# EAGLE library part PIC32MX5*L? (library mchp_pic32)
100 pins, USB and CAN Microcontroller, from 64k to 512k and 32k/128k Ram Description PIC32MX564F064L (64k Flash, 32k Ram) PIC32MX564F128L (128k Flash, 32k Ram) PIC32MX575F256L (256k Flash, 64k Ram) PIC32MX575F512L (512k Flash, 64k Ram) PIC32MX595F512L (512k Flash, 128k Ram) MCU Core -80MHz, 1.56 DMIPS/MHz, 32-bit MIPS M4K® Core -USB 2.0 On-The-Go Peripheral with integrated PHY -10/100 Ethernet MAC with MII/RMII Interfaces -2 x CAN2.0b modules with 1024 buffers -8 Dedicated DMA Channels for USB OTG, Ethernet, and CAN -5 Stage pipeline, Harvard architecture -MIPS16e mode for up to 40% smaller code size -Single cycle multiply and hardware divide unit -32 x 32-bit Core Registers -32 x 32-bit Shadow Registers -Fast context switch and interrupt response MCU System Features -512K Flash (plus 12K boot Flash) -128K RAM (can execute from RAM) -8 Channel General Hardware DMA Controller -Flash prefetch module with 256 Byte cache -Lock instructions or data in cache for fast access -Programmable vector interrupt controller Analog Features -Fast and Accurate 16 channel 10-bit ADC, Max 1 Mega sample per second at +/- 1LSB, conversion available during SLEEP & IDLE -Power Management Modes -RUN, IDLE, and SLEEP modes -Multiple switchable clock modes for each power mode, enables optimum power settings Debug Features -iFlow Trace: Non-intrusive Hardware Instruction Trace port (5 Wires) -8 hardware breakpoints (6 Instruction and 2 Data) -2 wire programming and debugging interface -JTAG interface supporting Programming, Debugging and Boundary scan Other MCU Features -Fail-Safe Clock Monitor - allows safe shutdown if clock fails -2 Internal oscillators (8MHz & 31KHz) -Hardware RTCC (Real-Time Clock and Calendar with Alarms) -Watchdog Timer with separate RC oscillator -Pin compatible with 16-bit PIC® MCUs -Serial Communication Modules allow flexible UART/SPI/I2C™ configuration Device Program Data USB CAN Timers/ Capture/ Compare DMA Channels UART SPI I2C ADC channels Comparators PMP/PSP Jtag Trace PIC32MX564F064L 64 32 1 1 5/5/5 4/4 6 4 5 16 2 Yes Yes Yes PIC32MX564F128L 128 32 1 1 5/5/5 4/4 6 4 5 16 2 Yes Yes Yes PIC32MX575F256L 256 64 1 1 5/5/5 8/4 6 4 5 16 2 Yes Yes Yes PIC32MX575F512L 256 64 1 1 5/5/5 8/4 6 4 5 16 2 Yes Yes Yes PIC32MX595F512L 512 128 1 1 5/5/5 8/4 6 4 5 16 2 Yes Yes Yes Ref: Datasheet <http://ww1.microchip.com/downloads/en/DeviceDoc/61156G.pdf>
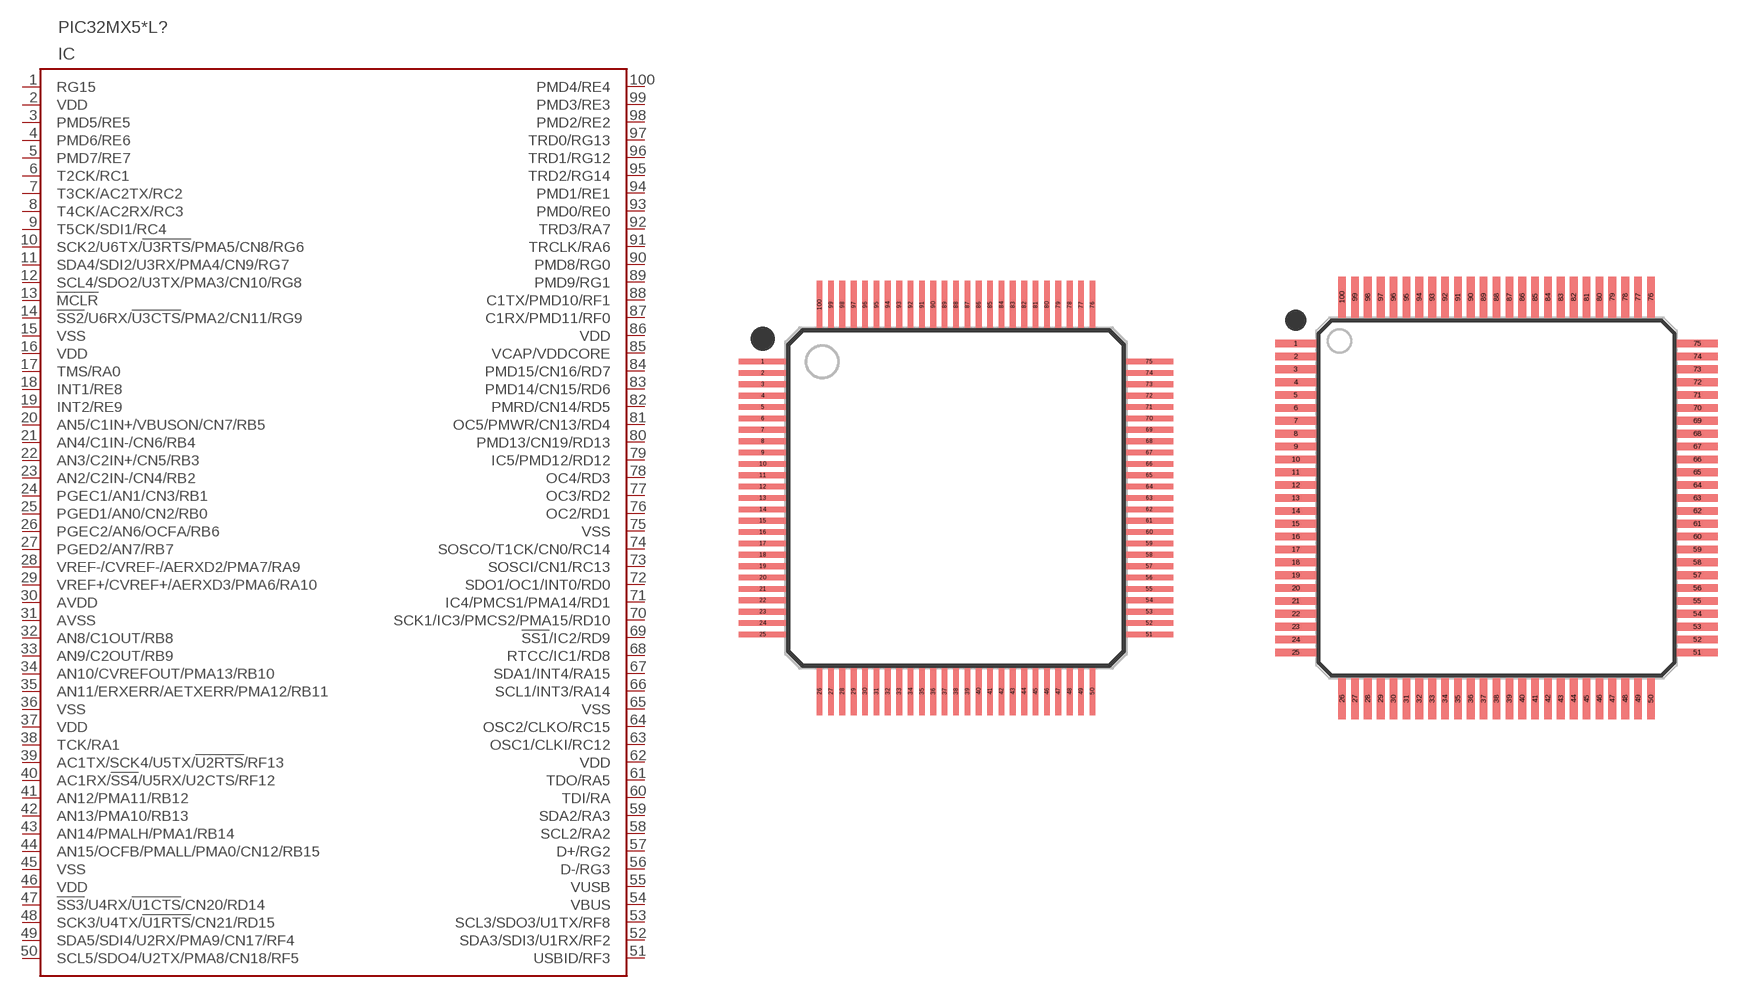
[diagram p2: symbol with the pads of QFP40P1400X1400X100-100N; footprints QFP40P1400X1400X100-100N, QFP50P1600X1600X100-100N]

Designator prefix IC

## PIC32MX564F064L-80I/PT, PIC32MX564F128L-80I/PT, PIC32MX575F256L-80I/PT, PIC32MX575F512L-80I/PT, PIC32MX595F512L-80I/PT  [QFP40P1400X1400X100-100N]
1  RG15
2  VDD  pwr
3  PMD5/RE5
4  PMD6/RE6
5  PMD7/RE7
6  T2CK/RC1
7  T3CK/AC2TX/RC2
8  T4CK/AC2RX/RC3
9  T5CK/SDI1/RC4
10  SCK2/U6TX/!U3RTS!/PMA5/CN8/RG6
11  SDA4/SDI2/U3RX/PMA4/CN9/RG7
12  SCL4/SDO2/U3TX/PMA3/CN10/RG8
13  !MCLR
14  !SS2!/U6RX/!U3CTS!/PMA2/CN11/RG9
15  VSS  pwr
16  VDD  pwr
17  TMS/RA0
18  INT1/RE8
19  INT2/RE9
20  AN5/C1IN+/VBUSON/CN7/RB5
21  AN4/C1IN-/CN6/RB4
22  AN3/C2IN+/CN5/RB3
23  AN2/C2IN-/CN4/RB2
24  PGEC1/AN1/CN3/RB1
25  PGED1/AN0/CN2/RB0
26  PGEC2/AN6/OCFA/RB6
27  PGED2/AN7/RB7
28  VREF-/CVREF-/AERXD2/PMA7/RA9
29  VREF+/CVREF+/AERXD3/PMA6/RA10
30  AVDD  pwr
31  AVSS  pwr
32  AN8/C1OUT/RB8
33  AN9/C2OUT/RB9
34  AN10/CVREFOUT/PMA13/RB10
35  AN11/ERXERR/AETXERR/PMA12/RB11
36  VSS  pwr
37  VDD  pwr
38  TCK/RA1
39  AC1TX/SCK4/U5TX/!U2RTS!/RF13
40  AC1RX/!SS4!/U5RX/U2CTS/RF12
41  AN12/PMA11/RB12
42  AN13/PMA10/RB13
43  AN14/PMALH/PMA1/RB14
44  AN15/OCFB/PMALL/PMA0/CN12/RB15
45  VSS  pwr
46  VDD  pwr
47  !SS3!/U4RX/!U1CTS!/CN20/RD14
48  SCK3/U4TX/!U1RTS!/CN21/RD15
49  SDA5/SDI4/U2RX/PMA9/CN17/RF4
50  SCL5/SDO4/U2TX/PMA8/CN18/RF5
51  USBID/RF3
52  SDA3/SDI3/U1RX/RF2
53  SCL3/SDO3/U1TX/RF8
54  VBUS  pwr
55  VUSB  pwr
56  D-/RG3
57  D+/RG2
58  SCL2/RA2
59  SDA2/RA3
60  TDI/RA
61  TDO/RA5
62  VDD  pwr
63  OSC1/CLKI/RC12
64  OSC2/CLKO/RC15
65  VSS  pwr
66  SCL1/INT3/RA14
67  SDA1/INT4/RA15
68  RTCC/IC1/RD8
69  !SS1!/IC2/RD9
70  SCK1/IC3/PMCS2/PMA15/RD10
71  IC4/PMCS1/PMA14/RD1
72  SDO1/OC1/INT0/RD0
73  SOSCI/CN1/RC13
74  SOSCO/T1CK/CN0/RC14
75  VSS  pwr
76  OC2/RD1
77  OC3/RD2
78  OC4/RD3
79  IC5/PMD12/RD12
80  PMD13/CN19/RD13
81  OC5/PMWR/CN13/RD4
82  PMRD/CN14/RD5
83  PMD14/CN15/RD6
84  PMD15/CN16/RD7
85  VCAP/VDDCORE  pwr
86  VDD  pwr
87  C1RX/PMD11/RF0
88  C1TX/PMD10/RF1
89  PMD9/RG1
90  PMD8/RG0
91  TRCLK/RA6
92  TRD3/RA7
93  PMD0/RE0
94  PMD1/RE1
95  TRD2/RG14
96  TRD1/RG12
97  TRD0/RG13
98  PMD2/RE2
99  PMD3/RE3
100  PMD4/RE4

## PIC32MX564F064L-80I/PF, PIC32MX564F128L-80I/PF, PIC32MX575F256L-80I/PF, PIC32MX575F512L-80I/PF, PIC32MX595F512L-80I/PF  [QFP50P1600X1600X100-100N]
Pads as for QFP40P1400X1400X100-100N

## PIC32MX534F064L-80I/BG, PIC32MX564F064L-80I/BG, PIC32MX564F128L-80I/BG, PIC32MX575F256L-80I/BG, PIC32MX575F512L-80I/BG  [BGA80P11X11_1000X1000X100-121N]
A1  PMD4/RE4
A2  PMD3/RE3
A3  TRD0/RG13
A4  PMD0/RE0
A5  PMD8/RG0
A6  C1TX/PMD10/RF1
A7  VDD  pwr
A8  VSS  pwr
A9  IC5/PMD12/RD12
A10  OC3/RD2
A11  OC2/RD1
B2  RG15
B3  PMD2/RE2
B4  PMD1/RE1
B5  TRD3/RA7
B6  C1RX/PMD11/RF0
B7  VCAP/VDDCORE  pwr
B8  PMRD/CN14/RD5
B9  OC4/RD3
B10  VSS  pwr
B11  SOSCO/T1CK/CN0/RC14
C1  PMD6/RE6
C2  VDD  pwr
C3  TRD1/RG12
C4  TRD2/RG14
C5  TRCLK/RA6
C7  PMD15/CN16/RD7
C8  OC5/PMWR/CN13/RD4
C9  VDD  pwr
C10  SOSCI/CN1/RC13
C11  IC4/PMCS1/PMA14/RD1
D1  T2CK/RC1
D2  PMD7/RE7
D3  PMD5/RE5
D4  VSS  pwr
D5  VSS  pwr
D7  PMD14/CN15/RD6
D8  PMD13/CN19/RD13
D9  SDO1/OC1/INT0/RD0
D11  SCK1/IC3/PMCS2/PMA15/RD10
E1  T5CK/SDI1/RC4
E2  T4CK/AC2RX/RC3
E3  SCK2/U6TX/!U3RTS!/PMA5/CN8/RG6
E4  T3CK/AC2TX/RC2
E5  VDD  pwr
E6  PMD9/RG1
E7  VSS  pwr
E8  SDA1/INT4/RA15
E9  RTCC/IC1/RD8
E10  !SS1!/IC2/RD9
E11  SCL1/INT3/RA14
F1  !MCLR
F2  SCL4/SDO2/U3TX/PMA3/CN10/RG8
F3  !SS2!/U6RX/!U3CTS!/PMA2/CN11/RG9
F4  SDA4/SDI2/U3RX/PMA4/CN9/RG7
F5  VSS  pwr
F8  VDD  pwr
F9  OSC1/CLKI/RC12
F10  VSS  pwr
F11  OSC2/CLKO/RC15
G1  INT1/RE8
G2  INT2/RE9
G3  TMS/RA0
G5  VDD  pwr
G6  VSS  pwr
G7  VSS  pwr
G9  TDO/RA5
G10  SDA2/RA3
G11  TDI/RA
H1  AN5/C1IN+/VBUSON/CN7/RB5
H2  AN4/C1IN-/CN6/RB4
H3  VSS  pwr
H4  VDD  pwr
H6  VDD  pwr
H8  VBUS  pwr
H9  VUSB  pwr
H10  D+/RG2
H11  SCL2/RA2
J1  AN3/C2IN+/CN5/RB3
J2  AN2/C2IN-/CN4/RB2
J3  PGED2/AN7/RB7
J4  AVDD  pwr
J5  AN11/ERXERR/AETXERR/PMA12/RB11
J6  TCK/RA1
J7  AN12/PMA11/RB12
J10  SCL3/SDO3/U1TX/RF8
J11  D-/RG3
K1  PGEC1/AN1/CN3/RB1
K2  PGED1/AN0/CN2/RB0
K3  VREF+/CVREF+/AERXD3/PMA6/RA10
K4  AN8/C1OUT/RB8
K6  AC1RX/!SS4!/U5RX/U2CTS/RF12
K7  AN14/PMALH/PMA1/RB14
K8  VDD  pwr
K9  SCK3/U4TX/!U1RTS!/CN21/RD15
K10  USBID/RF3
K11  SDA3/SDI3/U1RX/RF2
L1  PGEC2/AN6/OCFA/RB6
L2  VREF-/CVREF-/AERXD2/PMA7/RA9
L3  AVSS  pwr
L4  AN9/C2OUT/RB9
L5  AN10/CVREFOUT/PMA13/RB10
L6  AC1TX/SCK4/U5TX/!U2RTS!/RF13
L7  AN13/PMA10/RB13
L8  AN15/OCFB/PMALL/PMA0/CN12/RB15
L9  !SS3!/U4RX/!U1CTS!/CN20/RD14
L10  SDA5/SDI4/U2RX/PMA9/CN17/RF4
L11  SCL5/SDO4/U2TX/PMA8/CN18/RF5

## Footprint QFP40P1400X1400X100-100N (pad centres in mm)
0.4Pitch, Quad Flat Pack (QFP100) 0.4mm Pitch 25 x25, 100 Pin count 14.0mm L x 14.0mm W x 1.0mm H --------------------------------------------
smd 1.7 x 0.2: 1 -6.8,4.8; 2 -6.8,4.4; 3 -6.8,4; 4 -6.8,3.6; 5 -6.8,3.2; 6 -6.8,2.8; 7 -6.8,2.4; 8 -6.8,2; 9 -6.8,1.6; 10 -6.8,1.2; 11 -6.8,0.8; 12 -6.8,0.4; 13 -6.8,0; 14 -6.8,-0.4; 15 -6.8,-0.8; 16 -6.8,-1.2; 17 -6.8,-1.6; 18 -6.8,-2; 19 -6.8,-2.4; 20 -6.8,-2.8; 21 -6.8,-3.2; 22 -6.8,-3.6; 23 -6.8,-4; 24 -6.8,-4.4; 25 -6.8,-4.8; 51 6.8,-4.8; 52 6.8,-4.4; 53 6.8,-4; 54 6.8,-3.6; 55 6.8,-3.2; 56 6.8,-2.8; 57 6.8,-2.4; 58 6.8,-2; 59 6.8,-1.6; 60 6.8,-1.2; 61 6.8,-0.8; 62 6.8,-0.4; 63 6.8,0; 64 6.8,0.4; 65 6.8,0.8; 66 6.8,1.2; 67 6.8,1.6; 68 6.8,2; 69 6.8,2.4; 70 6.8,2.8; 71 6.8,3.2; 72 6.8,3.6; 73 6.8,4; 74 6.8,4.4; 75 6.8,4.8
smd 0.2 x 1.7: 26 -4.8,-6.8; 27 -4.4,-6.8; 28 -4,-6.8; 29 -3.6,-6.8; 30 -3.2,-6.8; 31 -2.8,-6.8; 32 -2.4,-6.8; 33 -2,-6.8; 34 -1.6,-6.8; 35 -1.2,-6.8; 36 -0.8,-6.8; 37 -0.4,-6.8; 38 0,-6.8; 39 0.4,-6.8; 40 0.8,-6.8; 41 1.2,-6.8; 42 1.6,-6.8; 43 2,-6.8; 44 2.4,-6.8; 45 2.8,-6.8; 46 3.2,-6.8; 47 3.6,-6.8; 48 4,-6.8; 49 4.4,-6.8; 50 4.8,-6.8; 76 4.8,6.8; 77 4.4,6.8; 78 4,6.8; 79 3.6,6.8; 80 3.2,6.8; 81 2.8,6.8; 82 2.4,6.8; 83 2,6.8; 84 1.6,6.8; 85 1.2,6.8; 86 0.8,6.8; 87 0.4,6.8; 88 0,6.8; 89 -0.4,6.8; 90 -0.8,6.8; 91 -1.2,6.8; 92 -1.6,6.8; 93 -2,6.8; 94 -2.4,6.8; 95 -2.8,6.8; 96 -3.2,6.8; 97 -3.6,6.8; 98 -4,6.8; 99 -4.4,6.8; 100 -4.8,6.8

## Footprint QFP50P1600X1600X100-100N (pad centres in mm)
0.5Pitch, Quad Flat Pack (QFP100) 0.5mm Pitch 25 x25, 100 Pin count 16.0mm L x 16.0mm W x 1.0mm H ----------------------------------------------
smd 1.6 x 0.3: 1 -7.8,6; 2 -7.8,5.5; 3 -7.8,5; 4 -7.8,4.5; 5 -7.8,4; 6 -7.8,3.5; 7 -7.8,3; 8 -7.8,2.5; 9 -7.8,2; 10 -7.8,1.5; 11 -7.8,1; 12 -7.8,0.5; 13 -7.8,0; 14 -7.8,-0.5; 15 -7.8,-1; 16 -7.8,-1.5; 17 -7.8,-2; 18 -7.8,-2.5; 19 -7.8,-3; 20 -7.8,-3.5; 21 -7.8,-4; 22 -7.8,-4.5; 23 -7.8,-5; 24 -7.8,-5.5; 25 -7.8,-6; 51 7.8,-6; 52 7.8,-5.5; 53 7.8,-5; 54 7.8,-4.5; 55 7.8,-4; 56 7.8,-3.5; 57 7.8,-3; 58 7.8,-2.5; 59 7.8,-2; 60 7.8,-1.5; 61 7.8,-1; 62 7.8,-0.5; 63 7.8,0; 64 7.8,0.5; 65 7.8,1; 66 7.8,1.5; 67 7.8,2; 68 7.8,2.5; 69 7.8,3; 70 7.8,3.5; 71 7.8,4; 72 7.8,4.5; 73 7.8,5; 74 7.8,5.5; 75 7.8,6
smd 0.3 x 1.6: 26 -6,-7.8; 27 -5.5,-7.8; 28 -5,-7.8; 29 -4.5,-7.8; 30 -4,-7.8; 31 -3.5,-7.8; 32 -3,-7.8; 33 -2.5,-7.8; 34 -2,-7.8; 35 -1.5,-7.8; 36 -1,-7.8; 37 -0.5,-7.8; 38 0,-7.8; 39 0.5,-7.8; 40 1,-7.8; 41 1.5,-7.8; 42 2,-7.8; 43 2.5,-7.8; 44 3,-7.8; 45 3.5,-7.8; 46 4,-7.8; 47 4.5,-7.8; 48 5,-7.8; 49 5.5,-7.8; 50 6,-7.8; 76 6,7.8; 77 5.5,7.8; 78 5,7.8; 79 4.5,7.8; 80 4,7.8; 81 3.5,7.8; 82 3,7.8; 83 2.5,7.8; 84 2,7.8; 85 1.5,7.8; 86 1,7.8; 87 0.5,7.8; 88 0,7.8; 89 -0.5,7.8; 90 -1,7.8; 91 -1.5,7.8; 92 -2,7.8; 93 -2.5,7.8; 94 -3,7.8; 95 -3.5,7.8; 96 -4,7.8; 97 -4.5,7.8; 98 -5,7.8; 99 -5.5,7.8; 100 -6,7.8

## Footprint BGA80P11X11_1000X1000X100-121N (pad centres in mm)
0.8Pitch, Ball Grid Array (BGA121) 0.8mm Pitch 11 x11, 121 Pin count 10.0mm L x 10.0mm W x 1.0mm H -------------------------------------------
smd 0.4 x 0.4: A1 -4,4; A2 -3.2,4; A3 -2.4,4; A4 -1.6,4; A5 -0.8,4; A6 0,4; A7 0.8,4; A8 1.6,4; A9 2.4,4; A10 3.2,4; A11 4,4; B1 -4,3.2; B2 -3.2,3.2; B3 -2.4,3.2; B4 -1.6,3.2; B5 -0.8,3.2; B6 0,3.2; B7 0.8,3.2; B8 1.6,3.2; B9 2.4,3.2; B10 3.2,3.2; B11 4,3.2; C1 -4,2.4; C2 -3.2,2.4; C3 -2.4,2.4; C4 -1.6,2.4; C5 -0.8,2.4; C6 0,2.4; C7 0.8,2.4; C8 1.6,2.4; C9 2.4,2.4; C10 3.2,2.4; C11 4,2.4; D1 -4,1.6; D2 -3.2,1.6; D3 -2.4,1.6; D4 -1.6,1.6; D5 -0.8,1.6; D6 0,1.6; D7 0.8,1.6; D8 1.6,1.6; D9 2.4,1.6; D10 3.2,1.6; D11 4,1.6; E1 -4,0.8; E2 -3.2,0.8; E3 -2.4,0.8; E4 -1.6,0.8; E5 -0.8,0.8; E6 0,0.8; E7 0.8,0.8; E8 1.6,0.8; E9 2.4,0.8; E10 3.2,0.8; E11 4,0.8; F1 -4,0; F2 -3.2,0; F3 -2.4,0; F4 -1.6,0; F5 -0.8,0; F6 0,0; F7 0.8,0; F8 1.6,0; F9 2.4,0; F10 3.2,0; F11 4,0; G1 -4,-0.8; G2 -3.2,-0.8; G3 -2.4,-0.8; G4 -1.6,-0.8; G5 -0.8,-0.8; G6 0,-0.8; G7 0.8,-0.8; G8 1.6,-0.8; G9 2.4,-0.8; G10 3.2,-0.8; G11 4,-0.8; H1 -4,-1.6; H2 -3.2,-1.6; H3 -2.4,-1.6; H4 -1.6,-1.6; H5 -0.8,-1.6; H6 0,-1.6; H7 0.8,-1.6; H8 1.6,-1.6; H9 2.4,-1.6; H10 3.2,-1.6; H11 4,-1.6; J1 -4,-2.4; J2 -3.2,-2.4; J3 -2.4,-2.4; J4 -1.6,-2.4; J5 -0.8,-2.4; J6 0,-2.4; J7 0.8,-2.4; J8 1.6,-2.4; J9 2.4,-2.4; J10 3.2,-2.4; J11 4,-2.4; K1 -4,-3.2; K2 -3.2,-3.2; K3 -2.4,-3.2; K4 -1.6,-3.2; K5 -0.8,-3.2; K6 0,-3.2; K7 0.8,-3.2; K8 1.6,-3.2; K9 2.4,-3.2; K10 3.2,-3.2; K11 4,-3.2; L1 -4,-4; L2 -3.2,-4; L3 -2.4,-4; L4 -1.6,-4; L5 -0.8,-4; L6 0,-4; L7 0.8,-4; L8 1.6,-4; L9 2.4,-4; L10 3.2,-4; L11 4,-4